# EAGLE library part DIALIGHT-3 (library Transputer)
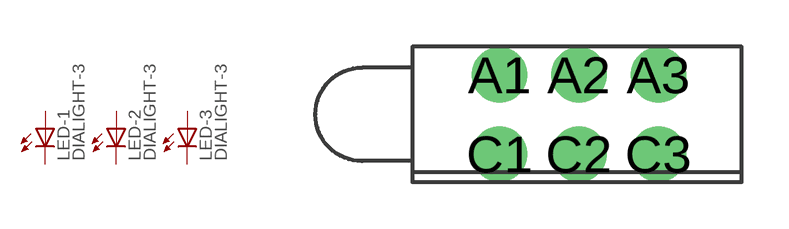
[diagram p2: symbol with the pads of DIALIGHT-3; footprint DIALIGHT-3]

Designator prefix LED; gates -1=LED -2=LED -3=LED

## DIALIGHT-3  [DIALIGHT-3]
A1  -1:A  pas
A2  -2:A  pas
A3  -3:A  pas
C1  -1:C  pas
C2  -2:C  pas
C3  -3:C  pas

## Footprint DIALIGHT-3 (pad centres in mm)
drill 1.1 pad 1.778: A1 0,1.27; A2 2.54,1.27; A3 5.08,1.27; C1 0,-1.27; C2 2.54,-1.27; C3 5.08,-1.27